# EAGLE library part WAGO_739_308 (library Traficon)
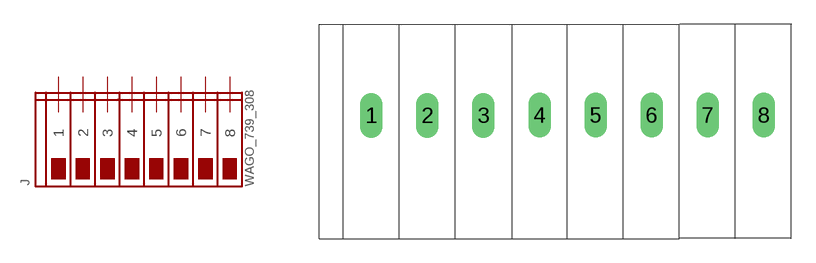
[diagram p82: symbol with the pads of WAGO_739_308; footprint WAGO_739_308]

Designator prefix J

## WAGO_739_308  [WAGO_739_308]
1  1
2  2
3  3
4  4
5  5
6  6
7  7
8  8

## Footprint WAGO_739_308 (pad centres in mm)
drill 0.9 long: 1 -0.009,7.686; 2 3.491,7.686; 3 6.991,7.686; 4 10.5,7.7; 5 14,7.7; 6 17.5,7.7; 7 21,7.7; 8 24.5,7.7